# Altium footprint library CAPC3216X90L.PCBLIB: 1 footprints
Each footprint in its own frame and in the unit in brackets; x right, y up, seen from the top. Pads: shape width x height; smd on the part's side, far side on the other; paste and mask are expansions set on the pad; w line width, h text height; cw(c..) or ccw(c..) is an arc to the next point about the centre after c.
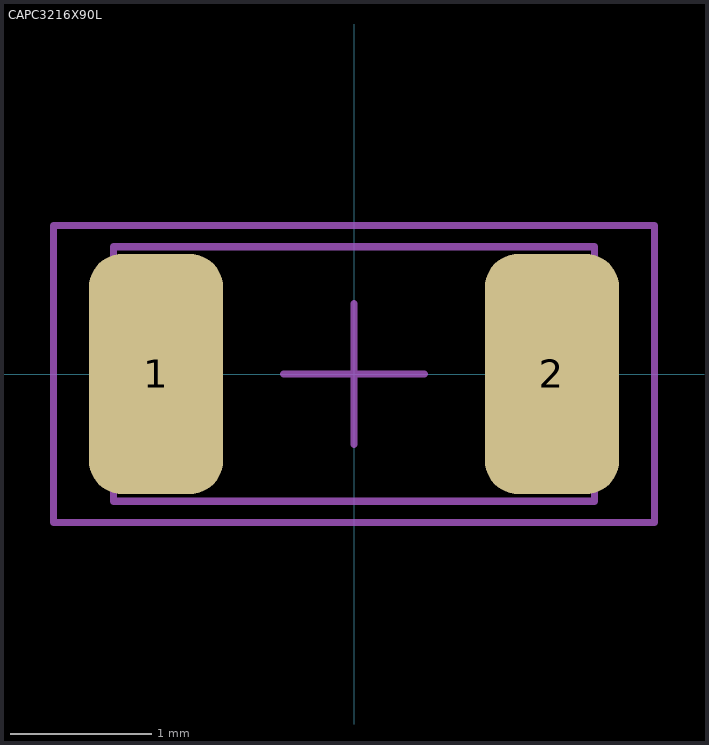
[diagram p0: the footprint, top view; thin cyan lines are the x and y axes]

## CAPC3216X90L [mm] "CAP 1206 (3216 metric) Least"
height 0.9
pads (2):
  rrect50% 0.95x1.7 smd paste+0: 1(-1.4,0) 2(1.4,0)
Top Component Outline:
  lines w0.001: -1.7,-0.9 -1.7,0.9 1.7,0.9 1.7,-0.9 -1.7,-0.9
  lines w0.05: -1.7,-0.9 -1.7,0.9 1.7,0.9 1.7,-0.9 -1.7,-0.9
Top Courtyard:
  lines w0.05: -0.5,0 0.5,0 ; 0,-0.5 0,0.5 ; -2.125,-1.05 -2.125,1.05 2.125,1.05 2.125,-1.05 -2.125,-1.05
3D body: height 0.9, standoff 0, extent -1.143,-0.9 1.143,0.9
3D body: height 0.9, standoff 0, extent -1.7,-0.9 -1.143,0.9
3D body: height 0.9, standoff 0, extent 1.143,-0.9 1.7,0.9